# Altium footprint library WR-WTB_3.96mm.PcbLib: 13 footprints
Each footprint in its own frame and in the unit in brackets; x right, y up, seen from the top. Pads: shape width x height; smd on the part's side, far side on the other; paste and mask are expansions set on the pad; w line width, h text height; cw(c..) or ccw(c..) is an arc to the next point about the centre after c.
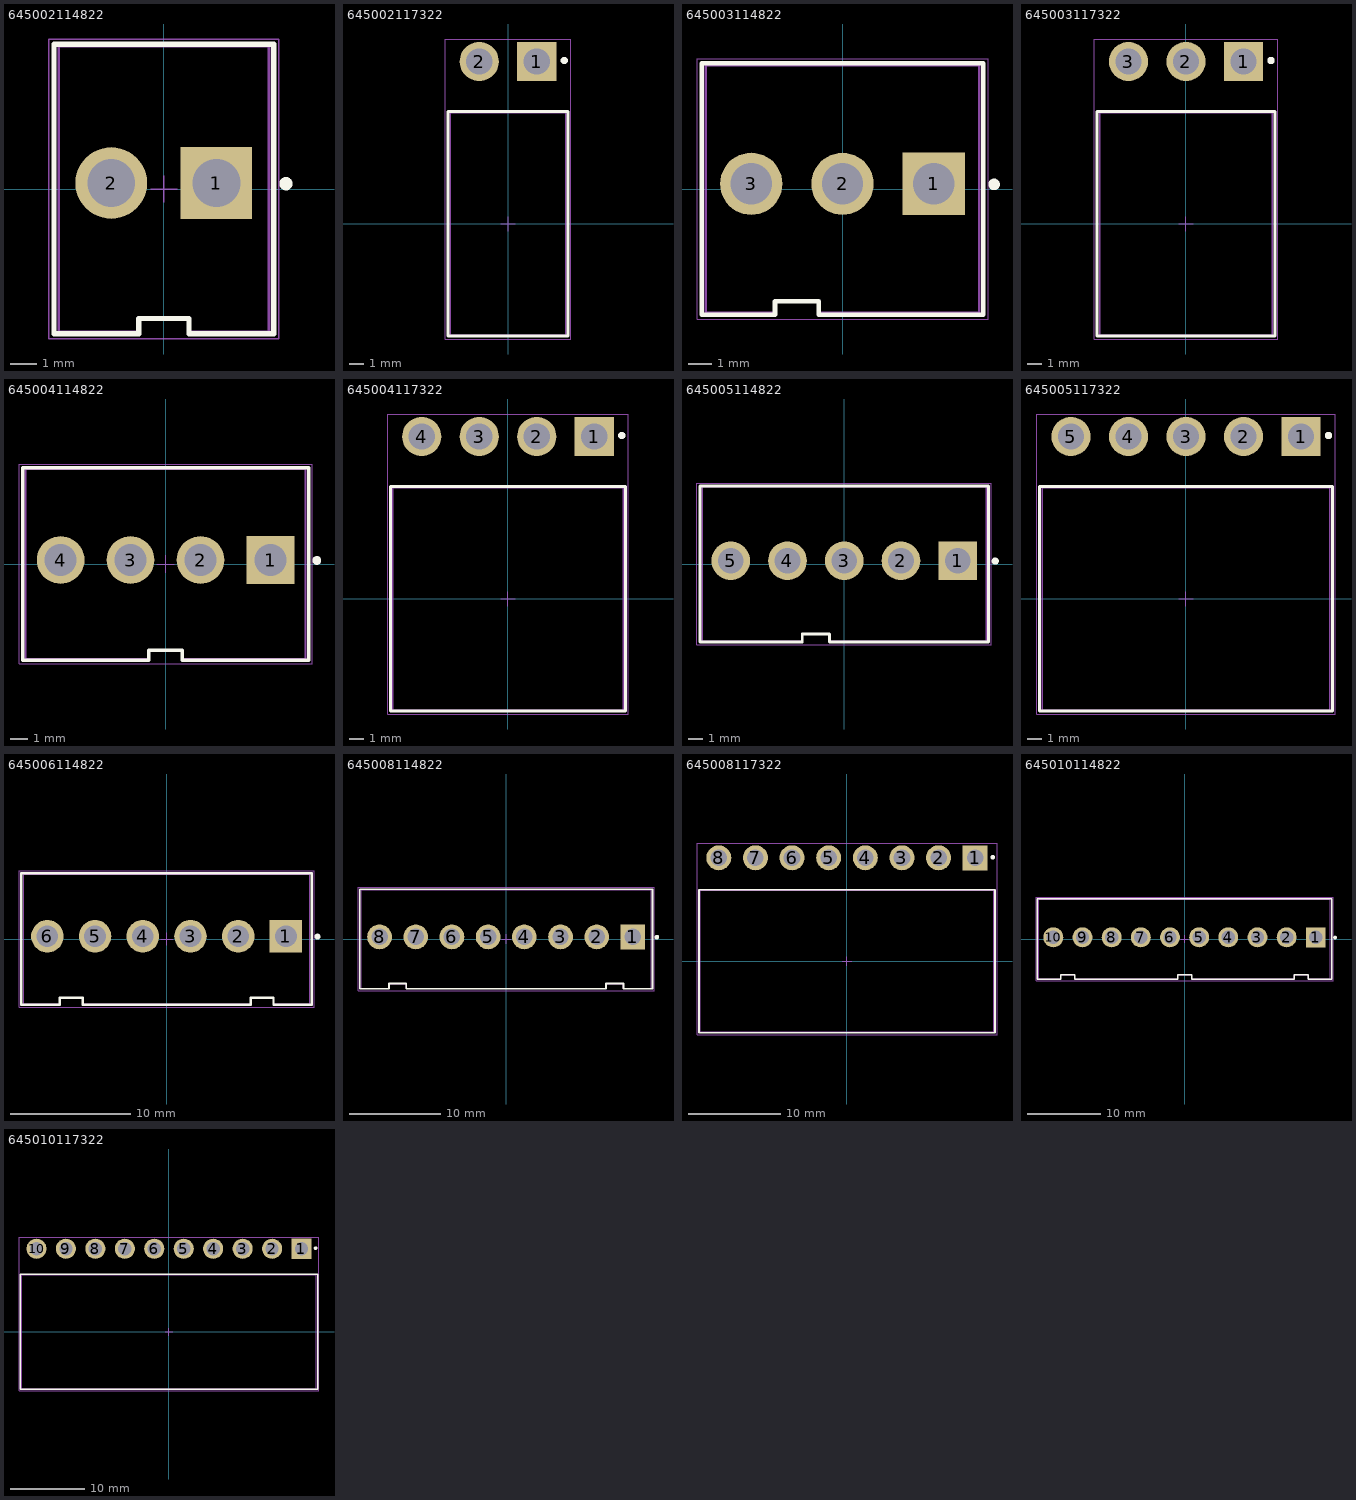
[diagram p0: the footprints below, top view; thin cyan lines are the x and y axes]

## 645002114822 [mm] "3.96mm Male Locking Header, 2p"
height 13.85
pads (2):
  rect 2.7x2.7 hole 1.8: 1(1.98,0.225)
  round 2.7 hole 1.8: 2(-1.98,0.225)
Top Overlay:
  circle w0.25: c4.6,0.2 r0.125
  lines w0.2: -4.135,-5.45 -0.95,-5.45 -0.95,-4.875 0.95,-4.875 0.95,-5.45 4.135,-5.45 4.135,5.45 -4.135,5.45 -4.135,-5.45
Mechanical 13:
  lines w0.1: -3.96,-5.375 -3.96,5.375 3.96,5.375 3.96,-5.375 0.95,-5.375 0.95,-4.875 -0.95,-4.875 -0.95,-5.375 -3.96,-5.375
Mechanical 15:
  lines w0.05: -0.5,0 0.5,0 ; 0,-0.5 0,0.5 ; -4.335,-5.65 -4.335,5.65 4.335,5.65 4.335,-5.65 -4.335,-5.65
3D body "645002114822.stp": height 13.89, standoff -3.56, extent -4.015,-5.375 4.015,5.375

## 645002117322 [mm] "3.96mm Male Right Angled Locking Header, 2p"
height 15.3
pads (2):
  rect 2.7x2.7 hole 1.8: 1(1.98,11.18)
  round 2.7 hole 1.8: 2(-1.98,11.18)
Top Overlay:
  circle w0.25: c3.875,11.25 r0.125
  lines w0.2: -4.135,-7.725 4.135,-7.725 4.135,7.725 -4.135,7.725 -4.135,-7.725
Mechanical 13:
  lines w0.1: -3.96,-7.65 -3.96,7.65 3.96,7.65 3.96,-7.65 -3.96,-7.65
Mechanical 15:
  lines w0.05: -0.5,0 0.5,0 ; 0,-0.5 0,0.5 ; -4.335,-7.925 -4.335,12.73 4.335,12.73 4.335,-7.925 -4.335,-7.925
3D body "645002117322.stp": height 10.79, standoff -3.63, extent -4.015,-7.65 4.015,11.8

## 645003114822 [mm] "3.96mm Male Locking Header, 3p"
height 13.85
pads (3):
  rect 2.7x2.7 hole 1.8: 1(3.96,0.225)
  round 2.7 hole 1.8: 2(0,0.225) 3(-3.96,0.225)
Top Overlay:
  circle w0.25: c6.58,0.2 r0.125
  lines w0.2: -6.115,-5.45 -2.93,-5.45 -2.93,-4.875 -1.03,-4.875 -1.03,-5.45 6.115,-5.45 6.115,5.45 -6.115,5.45 -6.115,-5.45
Mechanical 13:
  lines w0.1: -5.94,-5.375 -5.94,5.375 5.94,5.375 5.94,-5.375 -1.03,-5.375 -1.03,-4.875 -2.93,-4.875 -2.93,-5.375 -5.94,-5.375
Mechanical 15:
  lines w0.05: -0.5,0 0.5,0 ; 0,-0.5 0,0.5 ; -6.315,-5.65 -6.315,5.65 6.315,5.65 6.315,-5.65 -6.315,-5.65
3D body "645003114822.stp": height 13.89, standoff -3.56, extent -5.995,-5.375 5.995,5.375

## 645003117322 [mm] "3.96mm Male Right Angled Locking Header, 3p"
height 15.3
pads (3):
  rect 2.7x2.7 hole 1.8: 1(3.96,11.18)
  round 2.7 hole 1.8: 2(0,11.18) 3(-3.96,11.18)
Top Overlay:
  circle w0.25: c5.855,11.25 r0.125
  lines w0.2: -6.115,-7.725 -6.115,7.725 6.115,7.725 6.115,-7.725 -6.115,-7.725
Mechanical 13:
  lines w0.1: -5.94,-7.65 5.94,-7.65 5.94,7.65 -5.94,7.65 -5.94,-7.65
Mechanical 15:
  lines w0.05: -0.5,0 0.5,0 ; 0,-0.5 0,0.5 ; -6.315,-7.925 6.315,-7.925 6.315,12.73 -6.315,12.73 -6.315,-7.925
3D body "645003117322.stp": height 10.79, standoff -3.63, extent -5.995,-7.65 5.995,11.8

## 645004114822 [mm] "3.96mm Male Locking Header, 4p"
height 13.85
pads (4):
  rect 2.7x2.7 hole 1.8: 1(5.94,0.225)
  round 2.7 hole 1.8: 2(1.98,0.225) 3(-1.98,0.225) 4(-5.94,0.225)
Top Overlay:
  circle w0.25: c8.56,0.2 r0.125
  lines w0.2: -8.095,-5.45 -8.095,5.45 8.095,5.45 8.095,-5.45 0.95,-5.45 0.95,-4.875 -0.95,-4.875 -0.95,-5.45 -8.095,-5.45
Mechanical 13:
  lines w0.1: -7.92,-5.375 -0.95,-5.375 -0.95,-4.875 0.95,-4.875 0.95,-5.375 7.92,-5.375 7.92,5.375 -7.92,5.375 -7.92,-5.375
Mechanical 15:
  lines w0.05: -0.5,0 0.5,0 ; 0,-0.5 0,0.5 ; -8.295,-5.65 8.295,-5.65 8.295,5.65 -8.295,5.65 -8.295,-5.65
3D body "645004114822.stp": height 13.89, standoff -3.56, extent -7.975,-5.375 7.975,5.375

## 645004117322 [mm] "3.96mm Male Right Angled Locking Header, 4p"
height 15.3
pads (4):
  rect 2.7x2.7 hole 1.8: 1(5.94,11.18)
  round 2.7 hole 1.8: 2(1.98,11.18) 3(-1.98,11.18) 4(-5.94,11.18)
Top Overlay:
  circle w0.25: c7.835,11.25 r0.125
  lines w0.2: -8.095,-7.725 8.095,-7.725 8.095,7.725 -8.095,7.725 -8.095,-7.725
Mechanical 13:
  lines w0.1: -7.92,-7.65 -7.92,7.65 7.92,7.65 7.92,-7.65 -7.92,-7.65
Mechanical 15:
  lines w0.05: -0.5,0 0.5,0 ; 0,-0.5 0,0.5 ; -8.295,-7.925 -8.295,12.73 8.295,12.73 8.295,-7.925 -8.295,-7.925
3D body "645004117322.stp": height 10.79, standoff -3.63, extent -7.975,-7.65 7.975,11.8

## 645005114822 [mm] "3.96mm Male Locking Header, 5p"
height 13.85
pads (5):
  rect 2.7x2.7 hole 1.8: 1(7.92,0.225)
  round 2.7 hole 1.8: 2(3.96,0.225) 3(0,0.225) 4(-3.96,0.225) 5(-7.92,0.225)
Top Overlay:
  circle w0.25: c10.54,0.2 r0.125
  lines w0.2: -10.075,-5.45 -10.075,5.45 10.075,5.45 10.075,-5.45 -1.03,-5.45 -1.03,-4.875 -2.93,-4.875 -2.93,-5.45 -10.075,-5.45
Mechanical 13:
  lines w0.1: -9.9,-5.375 -2.93,-5.375 -2.93,-4.875 -1.03,-4.875 -1.03,-5.375 9.9,-5.375 9.9,5.375 -9.9,5.375 -9.9,-5.375
Mechanical 15:
  lines w0.05: -0.5,0 0.5,0 ; 0,-0.5 0,0.5 ; -10.275,-5.65 10.275,-5.65 10.275,5.65 -10.275,5.65 -10.275,-5.65
3D body "645005114822.stp": height 13.89, standoff -3.56, extent -9.955,-5.375 9.955,5.375

## 645005117322 [mm] "3.96mm Male Right Angled Locking Header, 5p"
height 15.3
pads (5):
  rect 2.7x2.7 hole 1.8: 1(7.92,11.18)
  round 2.7 hole 1.8: 2(3.96,11.18) 3(0,11.18) 4(-3.96,11.18) 5(-7.92,11.18)
Top Overlay:
  circle w0.25: c9.815,11.25 r0.125
  lines w0.2: -10.075,-7.725 -10.075,7.725 10.075,7.725 10.075,-7.725 -10.075,-7.725
Mechanical 13:
  lines w0.1: -9.9,-7.65 9.9,-7.65 9.9,7.65 -9.9,7.65 -9.9,-7.65
Mechanical 15:
  lines w0.05: -0.5,0 0.5,0 ; 0,-0.5 0,0.5 ; -10.275,-7.925 10.275,-7.925 10.275,12.73 -10.275,12.73 -10.275,-7.925
3D body "645005117322.stp": height 10.79, standoff -3.63, extent -9.955,-7.65 9.955,11.8

## 645006114822 [mm] "3.96mm Male Locking Header, 6p"
height 13.85
pads (6):
  rect 2.7x2.7 hole 1.8: 1(9.9,0.225)
  round 2.7 hole 1.8: 2(5.94,0.225) 3(1.98,0.225) 4(-1.98,0.225) 5(-5.94,0.225) 6(-9.9,0.225)
Top Overlay:
  circle w0.25: c12.52,0.2 r0.125
  lines w0.2: -12.055,-5.45 -12.055,5.45 12.055,5.45 12.055,-5.45 8.87,-5.45 8.87,-4.875 6.97,-4.875 6.97,-5.45 -6.97,-5.45 -6.97,-4.875 -8.87,-4.875 -8.87,-5.45 -12.055,-5.45
Mechanical 13:
  lines w0.1: -11.88,-5.375 -8.87,-5.375 -8.87,-4.875 -6.97,-4.875 -6.97,-5.375 6.97,-5.375 6.97,-4.875 8.87,-4.875 8.87,-5.375 11.88,-5.375 11.88,5.375 -11.88,5.375 -11.88,-5.375
Mechanical 15:
  lines w0.05: -0.5,0 0.5,0 ; 0,-0.5 0,0.5 ; -12.255,-5.65 12.255,-5.65 12.255,5.65 -12.255,5.65 -12.255,-5.65
3D body "645006114822.stp": height 13.89, standoff -3.56, extent -11.935,-5.375 11.935,5.375

## 645008114822 [mm] "3.96mm Male Locking Header, 8p"
height 13.85
pads (8):
  rect 2.7x2.7 hole 1.8: 1(13.86,0.225)
  round 2.7 hole 1.8: 2(9.9,0.225) 3(5.94,0.225) 4(1.98,0.225) 5(-1.98,0.225) 6(-5.94,0.225) 7(-9.9,0.225) 8(-13.86,0.225)
Top Overlay:
  circle w0.25: c16.48,0.2 r0.125
  lines w0.2: -16.015,-5.45 -16.015,5.45 16.015,5.45 16.015,-5.45 12.83,-5.45 12.83,-4.875 10.93,-4.875 10.93,-5.45 -10.93,-5.45 -10.93,-4.875 -12.83,-4.875 -12.83,-5.45 -16.015,-5.45
Mechanical 13:
  lines w0.1: -15.84,-5.375 -15.84,5.375 15.84,5.375 15.84,-5.375 12.83,-5.375 12.83,-4.875 10.93,-4.875 10.93,-5.375 -10.93,-5.375 -10.93,-4.875 -12.83,-4.875 -12.83,-5.375 -15.84,-5.375
Mechanical 15:
  lines w0.05: -0.5,0 0.5,0 ; 0,-0.5 0,0.5 ; -16.215,-5.65 16.215,-5.65 16.215,5.65 -16.215,5.65 -16.215,-5.65
3D body "645008114822.stp": height 13.89, standoff -3.56, extent -15.895,-5.375 15.895,5.375

## 645008117322 [mm] "3.96mm Male Right Angled Locking Header, 8p"
height 15.3
pads (8):
  rect 2.7x2.7 hole 1.8: 1(13.86,11.18)
  round 2.7 hole 1.8: 2(9.9,11.18) 3(5.94,11.18) 4(1.98,11.18) 5(-1.98,11.18) 6(-5.94,11.18) 7(-9.9,11.18) 8(-13.86,11.18)
Top Overlay:
  circle w0.25: c15.755,11.25 r0.125
  lines w0.2: -16.015,-7.725 16.015,-7.725 16.015,7.725 -16.015,7.725 -16.015,-7.725
Mechanical 13:
  lines w0.1: -15.84,-7.65 -15.84,7.65 15.84,7.65 15.84,-7.65 -15.84,-7.65
Mechanical 15:
  lines w0.05: -0.5,0 0.5,0 ; 0,-0.5 0,0.5 ; -16.215,-7.925 -16.215,12.73 16.215,12.73 16.215,-7.925 -16.215,-7.925
3D body "645008117322.stp": height 10.79, standoff -3.63, extent -15.895,-7.65 15.895,11.8

## 645010114822 [mm] "3.96mm Male Locking Header, 10p"
height 13.85
pads (10):
  rect 2.7x2.7 hole 1.8: 1(17.82,0.225)
  round 2.7 hole 1.8: 2(13.86,0.225) 3(9.9,0.225) 4(5.94,0.225) 5(1.98,0.225) 6(-1.98,0.225) 7(-5.94,0.225) 8(-9.9,0.225) 9(-13.86,0.225) 10(-17.82,0.225)
Top Overlay:
  circle w0.25: c20.44,0.2 r0.125
  lines w0.2: -19.975,-5.45 -19.975,5.45 19.975,5.45 19.975,-5.45 16.79,-5.45 16.79,-4.875 14.89,-4.875 14.89,-5.45 0.95,-5.45 0.95,-4.875 -0.95,-4.875 -0.95,-5.45 -14.89,-5.45 -14.89,-4.875 -16.79,-4.875 -16.79,-5.45 -19.975,-5.45
Mechanical 13:
  lines w0.1: -19.8,-5.375 -19.8,5.375 19.8,5.375 19.8,-5.375 16.79,-5.375 16.79,-4.875 14.89,-4.875 14.89,-5.375 0.95,-5.375 0.95,-4.875 -0.95,-4.875 -0.95,-5.375 -14.89,-5.375 -14.89,-4.875 -16.79,-4.875 -16.79,-5.375 -19.8,-5.375
Mechanical 15:
  lines w0.05: -0.5,0 0.5,0 ; 0,-0.5 0,0.5 ; -20.175,-5.65 20.175,-5.65 20.175,5.65 -20.175,5.65 -20.175,-5.65
3D body "645010114822.stp": height 13.89, standoff -3.56, extent -19.855,-5.375 19.855,5.375

## 645010117322 [mm] "3.96mm Male Right Angled Locking Header, 10p"
height 15.3
pads (10):
  rect 2.7x2.7 hole 1.8: 1(17.82,11.18)
  round 2.7 hole 1.8: 2(13.86,11.18) 3(9.9,11.18) 4(5.94,11.18) 5(1.98,11.18) 6(-1.98,11.18) 7(-5.94,11.18) 8(-9.9,11.18) 9(-13.86,11.18) 10(-17.82,11.18)
Top Overlay:
  circle w0.25: c19.715,11.25 r0.125
  lines w0.2: -19.975,-7.725 19.975,-7.725 19.975,7.725 -19.975,7.725 -19.975,-7.725
Mechanical 13:
  lines w0.1: -19.8,-7.65 -19.8,7.65 19.8,7.65 19.8,-7.65 -19.8,-7.65
Mechanical 15:
  lines w0.05: -0.5,0 0.5,0 ; 0,-0.5 0,0.5 ; -20.175,-7.925 -20.175,12.73 20.175,12.73 20.175,-7.925 -20.175,-7.925
3D body "645010117322.stp": height 10.79, standoff -3.55, extent -19.855,-7.6 19.855,11.8